# EAGLE library part SX70-7-PAD-HOLES (library _openSX70-NEW)
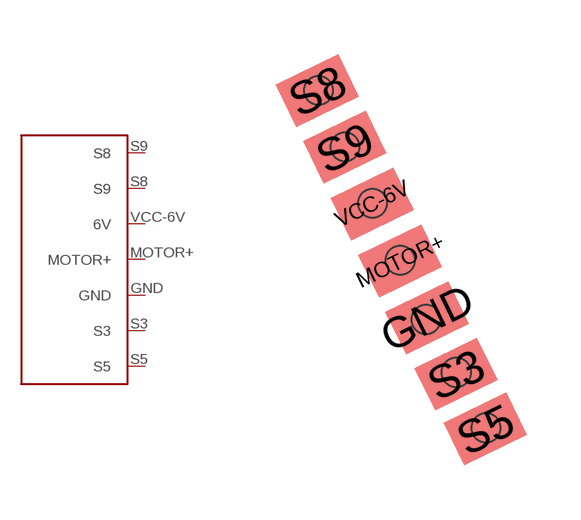
[diagram p10: symbol with the pads of SX70-7-PAD-HOLES; footprint SX70-7-PAD-HOLES]

Designator prefix -

## SX70-7-PAD-HOLES  [SX70-7-PAD-HOLES]
GND  GND
MOTOR+  MOTOR+
S3  S3
S5  S5
S8  S9
S9  S8
VCC-6V  6V

## Footprint SX70-7-PAD-HOLES (pad centres in mm)
smd 1.31 x 1.93 rotated 296: GND 3.404,0.495; MOTOR+ 2.654,2.07; S3 4.204,-1.067; S5 5.016,-2.591; S8 0.356,6.807; S9 1.118,5.232; VCC-6V 1.88,3.658
hole 0.8 at 1.13,5.24
hole 0.8 at 1.89,3.68
hole 0.8 at 2.66,2.09
hole 0.8 at 3.37,0.45
hole 0.8 at 0.39,6.81
hole 0.8 at 4.21,-1.02
hole 0.8 at 5.04,-2.56